# Altium footprint library LARS_409_TRANSISTORS.PCBLIB: 12 footprints
Each footprint in its own frame and in the unit in brackets; x right, y up, seen from the top. Pads: shape width x height; smd on the part's side, far side on the other; paste and mask are expansions set on the pad; w line width, h text height; cw(c..) or ccw(c..) is an arc to the next point about the centre after c.
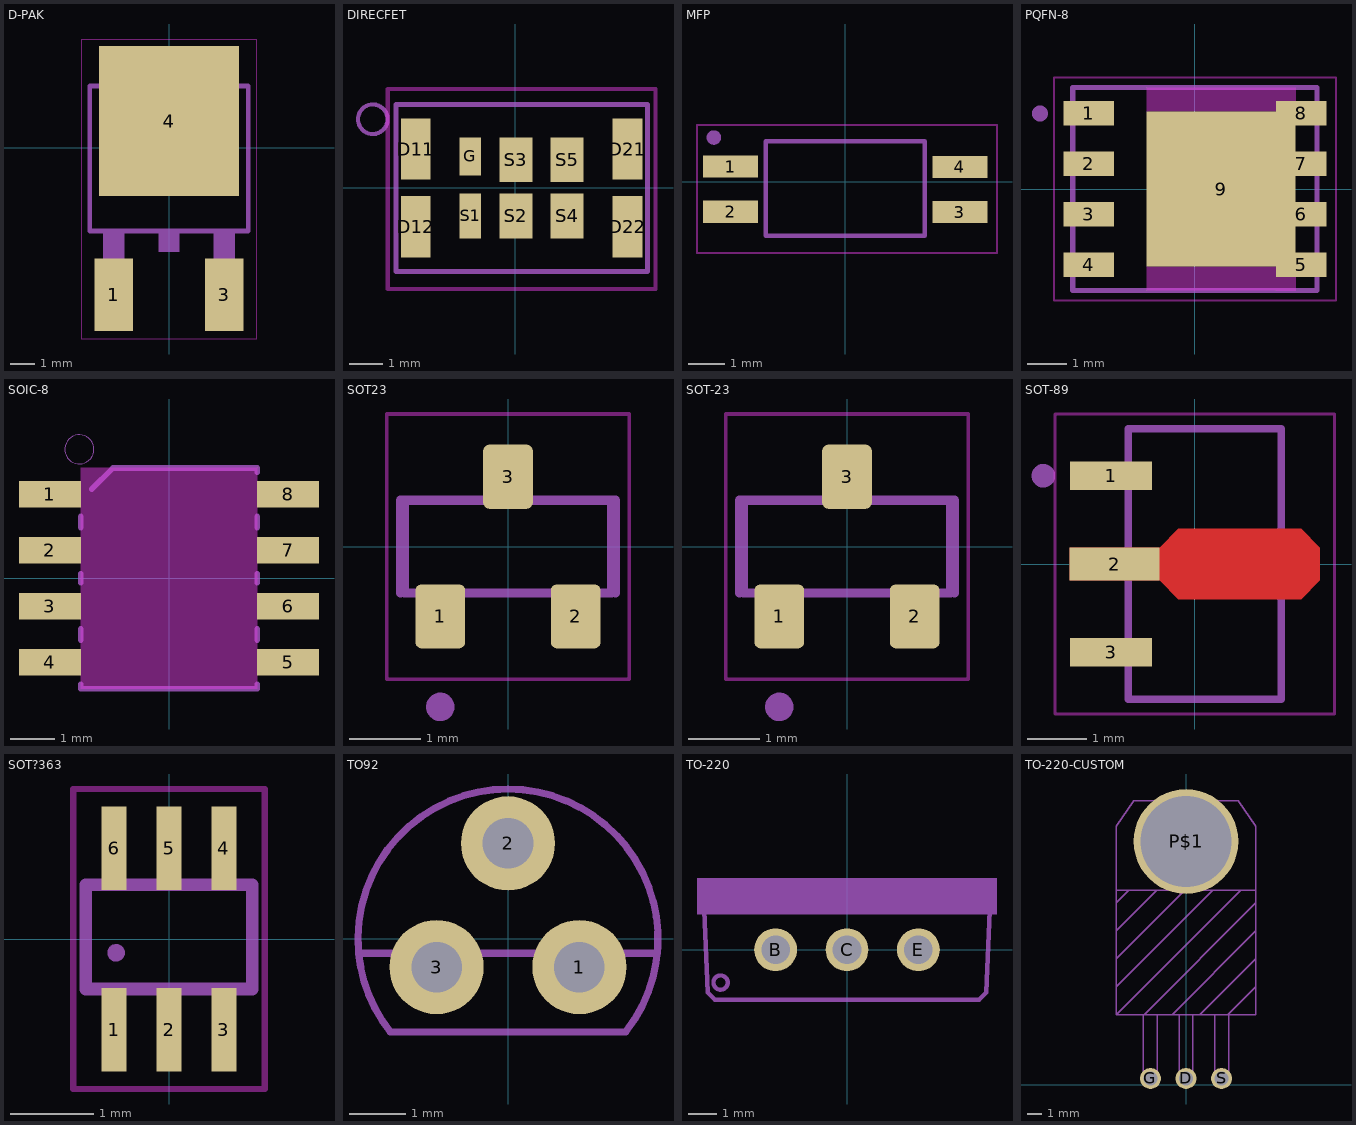
[diagram p0: the footprints below, top view; thin cyan lines are the x and y axes]

## D-PAK [mm]
pads (3):
  rect 1.6x3 smd: 1(-2.28,-6.07) 3(2.28,-6.07)
  rect 5.8x6.2 smd: 4(0,1.11)
Top keep-out:
  lines w0.051: -3.6,-7.9 3.6,-7.9 3.6,4.5 -3.6,4.5 -3.6,-7.9
tDocu:
  region: -2.718,-6.426 -2.718,-3.531 -1.854,-3.531 -1.854,-6.426
  region: 1.854,-6.426 1.854,-3.531 2.718,-3.531 2.718,-6.426
  region: -2.565,2.667 -2.565,3.378 -2.108,3.835 2.108,3.835 2.565,3.378 2.565,2.667
  lines w0.203: -3.277,2.565 3.277,2.565 ; -2.565,2.667 -2.565,3.378 -2.108,3.835 2.108,3.835 2.565,3.378 2.565,2.667 -2.565,2.667
tPlace:
  region: -0.432,-4.293 -0.432,-3.531 0.432,-3.531 0.432,-4.293
  lines w0.203: -3.277,2.565 -3.277,-3.429 3.277,-3.429 3.277,2.565

## DIRECFET [mm]
pads (10):
  rect 0.9x1.85 smd: D11(-3.013,1.169) D12(-3.013,-1.181) D21(3.387,1.169) D22(3.387,-1.181)
  rect 0.65x1.15 smd: G(-1.363,0.944)
  rect 0.65x1.35 smd: S1(-1.363,-0.855)
  rect 1x1.35 smd: S2(0.012,-0.855) S3(0.012,0.844) S4(1.562,-0.855) S5(1.562,0.844)
Top keep-out:
  lines w0.127: -3.86,-3.065 -3.86,2.985 4.24,2.985 4.24,-3.065 -3.86,-3.065
tPlace:
  circle w0.127: c-4.313,2.069 r0.447
  lines w0.152: -3.61,-2.53 3.99,-2.53 3.99,2.52 -3.61,2.52 -3.61,-2.53

## MFP [mm]
pads (4):
  rect 1.52x0.61 smd: 1(-3.175,0.42) 2(-3.175,-0.83) 3(3.175,-0.84) 4(3.175,0.41)
Top keep-out:
  lines w0.05: -4.105,-1.975 -4.105,1.575 4.205,1.575 4.205,-1.975 -4.105,-1.975
tDocu:
  circle w0.2: c-3.64,1.225 r0.1
  lines w0.127: -2.2,-1.495 -2.2,1.125 2.2,1.125 2.2,-1.495
tPlace:
  circle w0.2: c-3.64,1.225 r0.1
  lines w0.127: -2.2,-1.495 2.2,-1.495 ; -2.2,1.125 2.2,1.125

## PQFN-8 [mm]
pads (9):
  rect 1.27x0.61 smd: 1(-2.67,1.905) 2(-2.67,0.635) 3(-2.67,-0.635) 4(-2.67,-1.905) 5(2.67,-1.905) 6(2.67,-0.635) 7(2.67,0.635) 8(2.67,1.905)
  rect 3.75x3.91 smd: 9(0.66,0)
Top keep-out:
  region: 2.54,-2.21 2.54,-2.562 2.036,-2.562 2.036,-2.21
  region: -1.217,-2.554 -1.217,-1.955 2.035,-1.955 2.035,-2.554
  region: 2.031,2.201 2.031,2.55 2.535,2.55 2.535,2.201
  region: -1.212,1.959 -1.212,2.55 2.035,2.55 2.035,1.959
  region: 2.54,-2.21 2.54,-2.562 2.036,-2.562 2.036,-2.21
  region: -1.216,-2.553 -1.216,-1.955 2.035,-1.955 2.035,-2.553
  region: 2.031,2.201 2.031,2.55 2.535,2.55 2.535,2.201
  region: -1.211,1.956 -1.211,2.55 2.035,2.55 2.035,1.956
  lines w0.05: -3.55,-2.8 -3.55,2.8 3.55,2.8 3.55,-2.8 -3.55,-2.8
tDocu:
  circle w0.2: c-3.9,1.9 r0.1
  lines w0.127: -3.075,-2.55 -3.075,2.55 3.075,2.55 3.075,-2.55 -3.075,-2.55
tPlace:
  circle w0.2: c-3.9,1.9 r0.1
  lines w0.127: -3.075,-2.4 -3.075,-2.55 3.075,-2.55 3.075,-2.4 ; -3.075,2.4 -3.075,2.55 3.075,2.55 3.075,2.4

## SOIC-8 [mm]
pads (8):
  rect 1.4x0.6 smd: 1(-2.7,1.905) 2(-2.7,0.635) 3(-2.7,-0.635) 4(-2.7,-1.905) 5(2.7,-1.905) 6(2.7,-0.635) 7(2.7,0.635) 8(2.7,1.905)
Top keep-out:
  region: -2,2.5 2,2.5 2,-2.5 -2,-2.5
tPlace:
  circle w0: c-2.032,2.921 r0.33
  lines w0.127: -2,-2.4 -2,-2.5 2,-2.5 2,-2.4 ; -2,-1.4 -2,-1.15 ; -2,-0.1 -2,0.1 ; -2,1.15 -2,1.4 ; -1.75,2.019 -1.269,2.5 2,2.5 2,2.4 ; 2,-1.4 2,-1.15 ; 2,-0.1 2,0.1 ; 2,1.15 2,1.4

## SOT23 [mm]
pads (3):
  rrect25% 0.7x0.9 smd: 1(-0.95,-0.98) 2(0.95,-0.98) 3(0,0.98)
Top keep-out:
  lines w0.05: -1.7,-1.86 -1.7,1.86 1.7,1.86 1.7,-1.86 -1.7,-1.86
tDocu:
  circle w0.2: c-0.95,-2.25 r0.1
  lines w0.127: -1.45,-0.65 -1.45,0.65 1.45,0.65 1.45,-0.65 -1.45,-0.65
tPlace:
  circle w0.2: c-0.95,-2.25 r0.1
  lines w0.127: -1.509,-0.65 -1.509,0.65 -0.61,0.65 ; 0.61,0.65 1.509,0.65 1.509,-0.65
3D body "CircuitWorks-SOT-23.step": height 1.08, standoff -0.02, extent -1.5,-1.25 1.5,1.25

## SOT-23 [mm]
pads (3):
  rrect25% 0.7x0.9 smd: 1(-0.95,-0.98) 2(0.95,-0.98) 3(0,0.98)
Top keep-out:
  lines w0.05: -1.7,-1.86 1.7,-1.86 1.7,1.86 -1.7,1.86 -1.7,-1.86
tDocu:
  circle w0.2: c-0.95,-2.25 r0.1
  lines w0.127: -1.45,-0.65 1.45,-0.65 1.45,0.65 -1.45,0.65 -1.45,-0.65
tPlace:
  circle w0.2: c-0.95,-2.25 r0.1
  lines w0.127: -1.509,-0.65 -1.509,0.65 -0.61,0.65 ; 0.61,0.65 1.509,0.65 1.509,-0.65
3D body "CircuitWorks-SOT-23.step": height 1.08, standoff -0.02, extent -1.5,-1.25 1.5,1.25

## SOT-89 [mm]
pads (3):
  rect 1.4x0.48 smd: 1(-1.425,1.5) 3(-1.425,-1.5)
  rect 1.525x0.56 smd mask+0: 2(-1.365,0)
Top:
  region: -2.125,0.28 -2.125,-0.28 -0.6,-0.28 -0.28,-0.6 1.805,-0.6 2.125,-0.28 2.125,0.28 1.805,0.6 -0.28,0.6 -0.6,0.28
Top keep-out:
  lines w0.05: -2.375,-2.55 2.375,-2.55 2.375,2.55 -2.375,2.55 -2.375,-2.55
Top Paste:
  region: -0.098,-0.38 -0.098,0.38 1.623,0.38 1.623,-0.38
Top Solder:
  region: -2.225,0.38 -2.225,-0.38 -0.6,-0.38 -0.28,-0.7 1.805,-0.7 2.225,-0.28 2.225,0.28 1.805,0.7 -0.28,0.7 -0.6,0.38
tDocu:
  circle w0.2: c-2.575,1.5 r0.1
  lines w0.127: -1.13,-2.3 1.47,-2.3 1.47,2.3 -1.13,2.3 -1.13,-2.3
tPlace:
  circle w0.2: c-2.575,1.5 r0.1
  lines w0.127: -1.13,-2.3 1.47,-2.3 1.47,-0.92 ; -1.13,2.3 1.47,2.3 1.47,0.92

## SOT?363 [mm]
pads (6):
  rect 0.3x1 smd: 1(-0.66,-1.09) 2(0,-1.09) 3(0.66,-1.09) 4(0.66,1.09) 5(0,1.09) 6(-0.66,1.09)
Top keep-out:
  lines w0.076: -1.15,-1.8 1.15,-1.8 1.15,1.8 -1.15,1.8 ; -1.15,-1.775 -1.15,1.775
tDocu:
  lines w0.152: -1,-0.6 1,-0.6 1,0.65 -1,0.65 -1,-0.6
tPlace:
  circle w0.05: c-0.635,-0.165 r0.01
  circle w0.05: c-0.635,-0.165 r0.022
  circle w0.05: c-0.635,-0.165 r0.032
  circle w0.05: c-0.635,-0.165 r0.081

## TO92 [mil]
pads (3):
  round 66 hole 35.43: 1(50,-19.69) 2(0,66.93) 3(-50,-19.69)
tDocu:
  lines w5: -88.73,-10 -11.27,-10 ; -30.96,100.33 cw(c0,-0.02) 30.96,100.33 ; 11.27,-10 88.73,-10
  text "1" at 45,0 h77.5
  text "3" at -85,0 h77.5
  text "2" at -25,25 h77.5
tPlace:
  lines w5: -88.73,-10 -104.52,-10 ; -30.96,100.33 ccw(c0,0) -104.52,-10 ; -11.27,-10 11.27,-10 ; 30.96,100.33 cw(c0,0) 82.46,-65 -82.46,-65 cw(c0,0) -104.52,-10 ; 88.73,-10 104.52,-10

## TO-220 [mil]
pads (3):
  round 60 hole 40: B(-100,0) C(0,0) E(100,0)
tDocu:
  region: 65,50 65,70 135,70 135,50
  region: -35,50 -35,70 35,70 35,50
  region: -135,50 -135,70 -65,70 -65,50
tPlace:
  circle w6: c-177,-46 r10
  region: 135,50 135,70 210,70 210,50
  region: 35,50 35,70 65,70 65,50
  region: -65,50 -65,70 -35,70 -35,50
  region: -210,50 -210,70 -135,70 -135,50
  region: -210,70 -210,100 210,100 210,70
  lines w6: -200,55 -195,-60 -185,-70 185,-70 195,-60 200,55

## TO-220-CUSTOM [mm]
pads (4):
  round 1.508 hole 1: D(0,0.45) G(-2.54,0.45) S(2.54,0.45)
  round 7.5 hole 6.5: P$1(0,17.4)
bPlace:
  lines w0.102: -3.05,0 -3.05,5 ; -2.04,0 -2.04,5 ; -0.5,0 -0.5,5 ; 0.5,0 0.5,5 ; 2.04,0 2.04,5 ; 3.04,0 3.04,5 ; -5,5 3.9,13.9 ; -5,5 -5,7 ; -5,5 -3,5 ; -5,7 1.9,13.9 ; -5,7 -5,9 ; -5,9 -0.1,13.9 ; -5,9 -5,11 ; -5,11 -2.1,13.9 ; -5,11 -5,13 ; -5,13 -4.1,13.9 ; -5,13 -5,13.9 ; -5,13.9 -4.1,13.9 ; -5,13.9 -5,18.5 -3.75,20.3 3.75,20.3 5,18.5 5,13.9 ; -4.1,13.9 -2.1,13.9 ; -3,5 5,13 ; -3,5 -1,5 ; -2.1,13.9 -0.1,13.9 ; -1,5 5,11 ; -1,5 1,5 ; -0.1,13.9 1.9,13.9 ; 1,5 5,9 ; 1,5 3,5 ; 1.9,13.9 3.9,13.9 ; 3,5 5,7 ; 3,5 5,5 5,7 ; 3.9,13.9 5,13.9 ; 5,7 5,9 ; 5,9 5,11 ; 5,11 5,13 ; 5,13 5,13.9